# Altium footprint library SWITCH.PCBLIB: 95 footprints (part 1 of 6)
Each footprint in its own frame and in the unit in brackets; x right, y up, seen from the top. Pads: shape width x height; smd on the part's side, far side on the other; paste and mask are expansions set on the pad; w line width, h text height; cw(c..) or ccw(c..) is an arc to the next point about the centre after c.
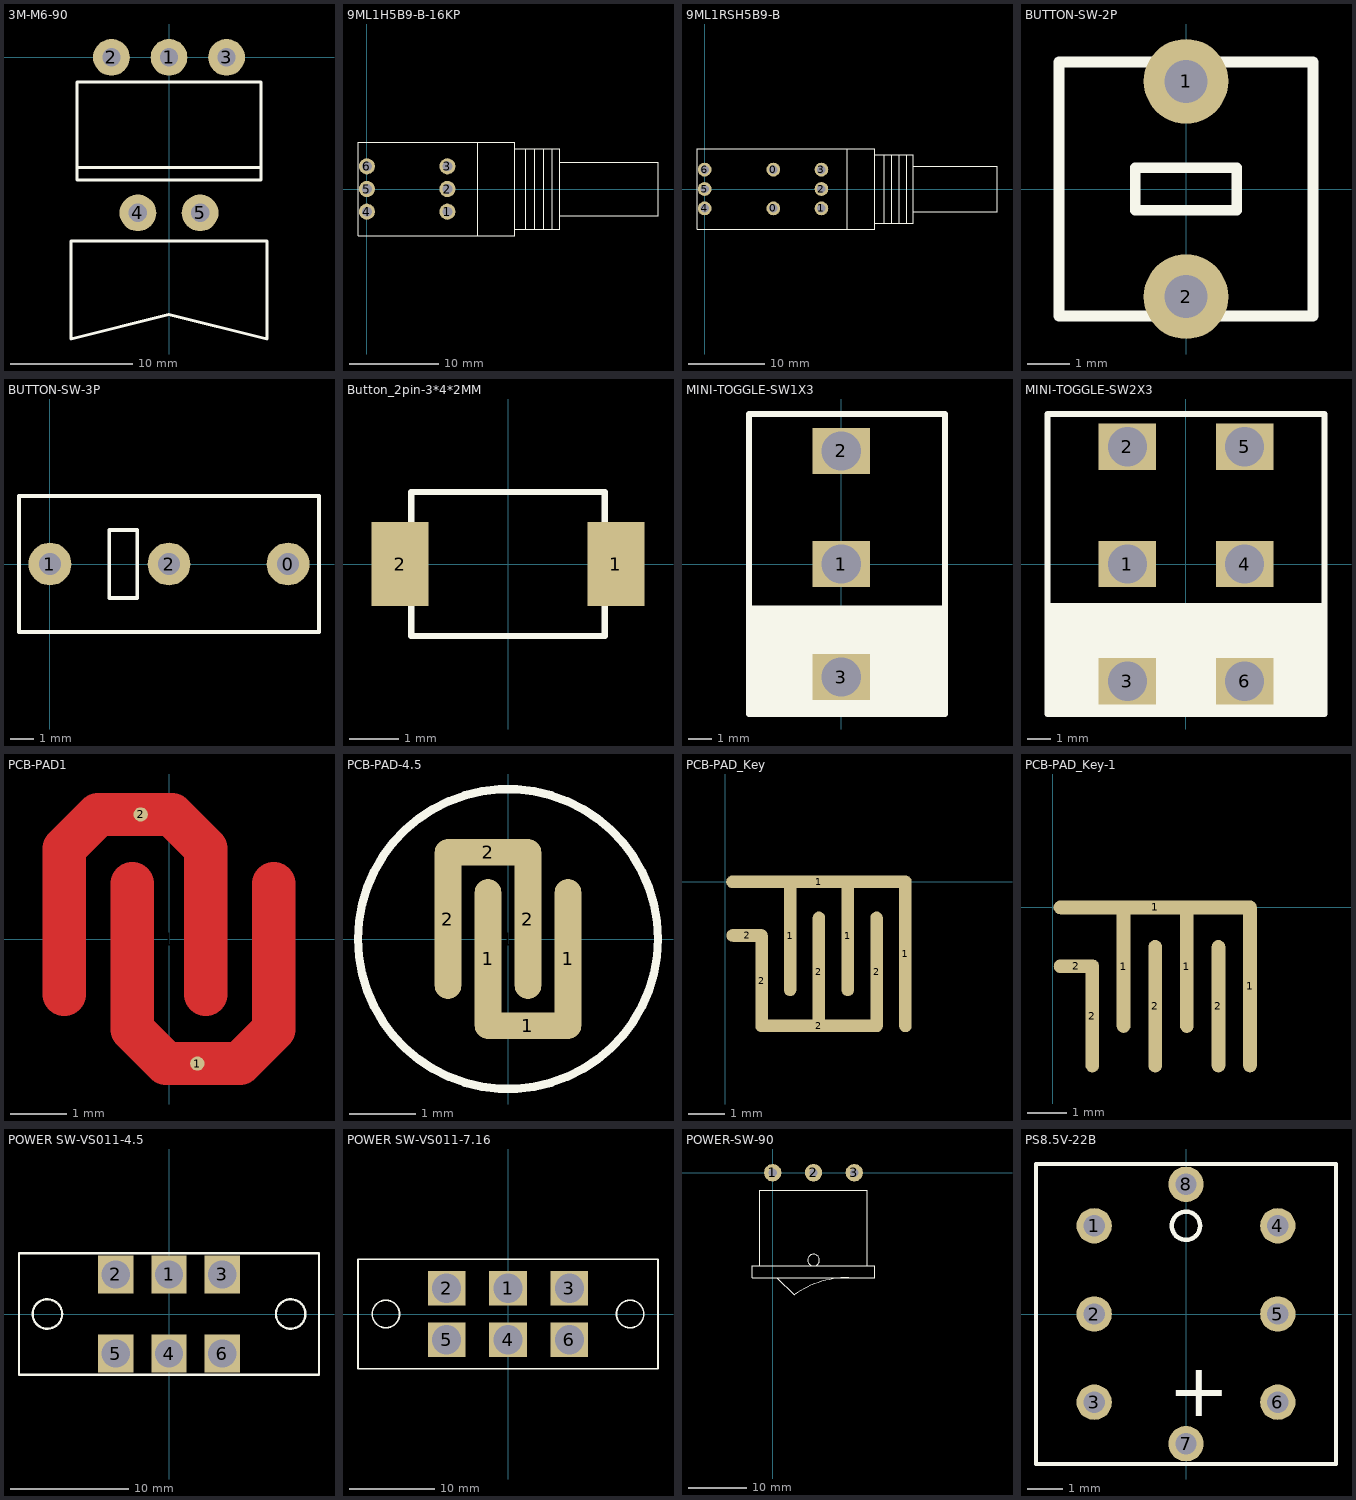
[diagram p0: the footprints below, top view; thin cyan lines are the x and y axes]

## 3M-M6-90 [mm]
pads (5):
  round 3 hole 1.5: 1(0,0) 2(-4.7,0) 3(4.7,0) 4(-2.54,-12.7) 5(2.54,-12.7)
TopOverlay:
  lines w0.254: -7.5,-9 7.5,-9 ; -8,-23 -8,-15 8,-15 8,-23 -0.025,-21 -8,-23 ; -7.5,-10 -7.5,-2 7.5,-2 7.5,-10 -7.5,-10

## 9ML1H5B9-B-16KP [mm]
pads (6):
  round 1.8 hole 1.1: 1(9,-2.54) 2(9,0) 3(9,2.54) 4(0,-2.54) 5(0,0) 6(0,2.54)
TopOverlay:
  lines w0.127: 12.4,-5.25 12.4,5.25 ; 16.55,-4.5 21.55,-4.5 21.55,4.5 16.55,4.5 ; 17.75,-4.5 17.75,4.5 ; 18.75,-4.5 18.75,4.5 ; 19.75,-4.5 19.75,4.5 ; 20.75,-4.5 20.75,4.5 ; 21.55,-3 32.55,-3 32.55,3 21.55,3 ; -1,-5.25 16.55,-5.25 16.55,5.25 -1,5.25 -1,-5.25

## 9ML1RSH5B9-B [mm]
pads (8):
  round 1.8 hole 1.1: 0(9,-2.54) 0(9,2.54) 1(15.3,-2.54) 2(15.3,0) 3(15.3,2.54) 4(0,-2.54) 5(0,0) 6(0,2.54)
TopOverlay:
  lines w0.127: 18.7,-5.25 18.7,5.25 ; 22.3,-4.5 27.3,-4.5 27.3,4.5 22.3,4.5 ; 23.5,-4.5 23.5,4.5 ; 24.5,-4.5 24.5,4.5 ; 25.5,-4.5 25.5,4.5 ; 26.5,-4.5 26.5,4.5 ; 27.3,-3 38.3,-3 38.3,3 27.3,3 ; -1,-5.25 22.3,-5.25 22.3,5.25 -1,5.25 -1,-5.25

## BUTTON-SW-2P [mm]
pads (2):
  round 2 hole 1.016: 1(0,2.54) 2(0,-2.54)
TopOverlay:
  lines w0.254: -3,-3 -3,3 3,3 3,-3 -3,-3 ; -1.2,-0.5 1.2,-0.5 1.2,0.5 -1.2,0.5 -1.2,-0.5

## BUTTON-SW-3P [mil]
pads (3):
  round 72 hole 37: 0(400,0) 1(0,0) 2(200,0)
TopOverlay:
  lines w6: -51.97,-114.17 -51.97,114.17 451.97,114.17 451.97,-114.17 -51.97,-114.17 ; 99.61,-57.09 99.61,57.09 146.85,57.09 146.85,-57.09 99.61,-57.09

## Button_2pin-3*4*2MM [mm] "Button_2pin-3*4*2MM"
pads (2):
  rect 1.15x1.7 smd: 1(2.175,0) 2(-2.175,0)
TopOverlay:
  lines w0.127: -1.95,-1.45 -1.95,1.45 1.95,1.45 1.95,-1.45 -1.95,-1.45

## MINI-TOGGLE-SW1X3 [mm]
pads (3):
  rect 2.5x2 hole 1.7: 1(0,0) 2(0,4.9) 3(0,-4.9)
TopOverlay:
  rectangle: -4,-6.5 4.5,-1.8
  lines w0.254: -4,-6.5 4.5,-6.5 4.5,6.5 -4,6.5 -4,-6.5

## MINI-TOGGLE-SW2X3 [mm]
pads (6):
  rect 2.5x2 hole 1.7: 1(-2.54,0) 2(-2.54,5.08) 3(-2.54,-5.08) 4(2.54,0) 5(2.54,5.08) 6(2.54,-5.08)
TopOverlay:
  rectangle: -6,-6.5 6,-1.7
  lines w0.254: -6,-6.5 -6,6.5 6,6.5 6,-6.5 -6,-6.5

## PCB-PAD1 [mm]
pads (3):
  rect 4.6x5.3 on Top Solder: 1(0,0)
  round 0.254 smd: 1(0.5,-2.2) 2(-0.5,2.2)
TopLayer:
  lines w0.762: -1.85,-0.975 -1.85,1.6 -1.25,2.2 -1.05,2.2 -0.5,2.2 0.05,2.2 0.65,1.6 0.65,1.4 0.65,-0.975 ; -0.65,0.975 -0.65,-1.4 -0.65,-1.6 -0.05,-2.2 0.5,-2.2 1.05,-2.2 1.25,-2.2 1.85,-1.6 1.85,0.975

## PCB-PAD-4.5 [mm]
pads (7):
  oval 0.4x2.4 smd: 1(-0.3,-0.3) 1(0.9,-0.3) 2(-0.9,0.3) 2(0.3,0.3)
  rect 1x0.4 on Top Solder: 1(0,0)
  oval 1.6x0.4 smd: 1(0.3,-1.3) 2(-0.3,1.3)
TopOverlay:
  circle w0.127: c0,0 r2.25

## PCB-PAD_Key [mm] "PCB-PAD_Key"
pads (9):
  oval 0.35x3.35 smd: 1(1.797,-1.5) 1(3.397,-1.5) 2(2.597,-2.5) 2(4.197,-2.5)
  oval 5.15x0.35 smd: 1(2.597,0)
  oval 0.35x4.35 smd: 1(4.997,-2)
  oval 1.15x0.35 smd: 2(0.603,-1.49)
  oval 0.35x2.85 smd: 2(1.005,-2.749)
  oval 3.5x0.35 smd: 2(2.597,-4)

## PCB-PAD_Key-1 [mm] "PCB-PAD_Key"
pads (8):
  oval 0.35x3.35 smd: 1(1.797,-1.5) 1(3.397,-1.5) 2(2.597,-2.5) 2(4.197,-2.5)
  oval 5.15x0.35 smd: 1(2.597,0)
  oval 0.35x4.35 smd: 1(4.997,-2)
  oval 1.15x0.35 smd: 2(0.603,-1.49)
  oval 0.35x2.85 smd: 2(1.005,-2.749)

## POWER SW-VS011-4.5 [mm]
pads (6):
  rect 3x3.2 hole 2.4: 1(0,3.35) 2(-4.5,3.35) 3(4.5,3.35) 4(0,-3.35) 5(-4.5,-3.35) 6(4.5,-3.35)
TopOverlay:
  circle w0.2: c-10.3,0 r1.25
  circle w0.2: c10.3,0 r1.25
  lines w0.2: -12.7,-5.15 12.7,-5.15 12.7,5.15 -12.7,5.15 -12.7,-5.15

## POWER SW-VS011-7.16 [mm]
pads (6):
  rect 4.4x4 hole 3.4: 1(0,3) 2(-7.16,3) 3(7.16,3) 4(0,-3) 5(-7.16,-3) 6(7.16,-3)
TopOverlay:
  circle w0.2: c-14.25,0 r1.6
  circle w0.2: c14.25,0 r1.6
  lines w0.2: -17.5,-6.4 -17.5,6.4 17.5,6.4 17.5,-6.4 -17.5,-6.4

## POWER-SW-90 [mm]
pads (3):
  round 3 hole 1.4: 1(0,0) 2(7,0) 3(14,0)
TopOverlay:
  circle w0.127: c7,-15 r1
  lines w0.127: -2.25,-16 -2.25,-3 16.25,-3 16.25,-16 ; 0.684,-17.984 3.684,-20.984 cw(c12.997,-33.994) 13.023,-17.994 ; -3.5,-18 -3.5,-16 17.5,-16 17.5,-18 -3.5,-18

## PS8.5V-22B [mm]
pads (8):
  round 1 hole 0.6: 1(-2.6,2.5) 2(-2.6,0) 3(-2.6,-2.5) 4(2.6,2.5) 5(2.6,0) 6(2.6,-2.5) 7(0,-3.675) 8(0,3.675)
TopOverlay:
  circle w0.127: c0,2.5 r0.4
  lines w0.127: -4.25,-4.25 4.25,-4.25 4.25,4.25 -4.25,4.25 -4.25,-4.25
  text "+" at -0.5,-2.9 h1.52